# Altium footprint library zWatch.PcbLib: 17 footprints (part 1 of 2)
Each footprint in its own frame and in the unit in brackets; x right, y up, seen from the top. Pads: shape width x height; smd on the part's side, far side on the other; paste and mask are expansions set on the pad; w line width, h text height; cw(c..) or ccw(c..) is an arc to the next point about the centre after c.
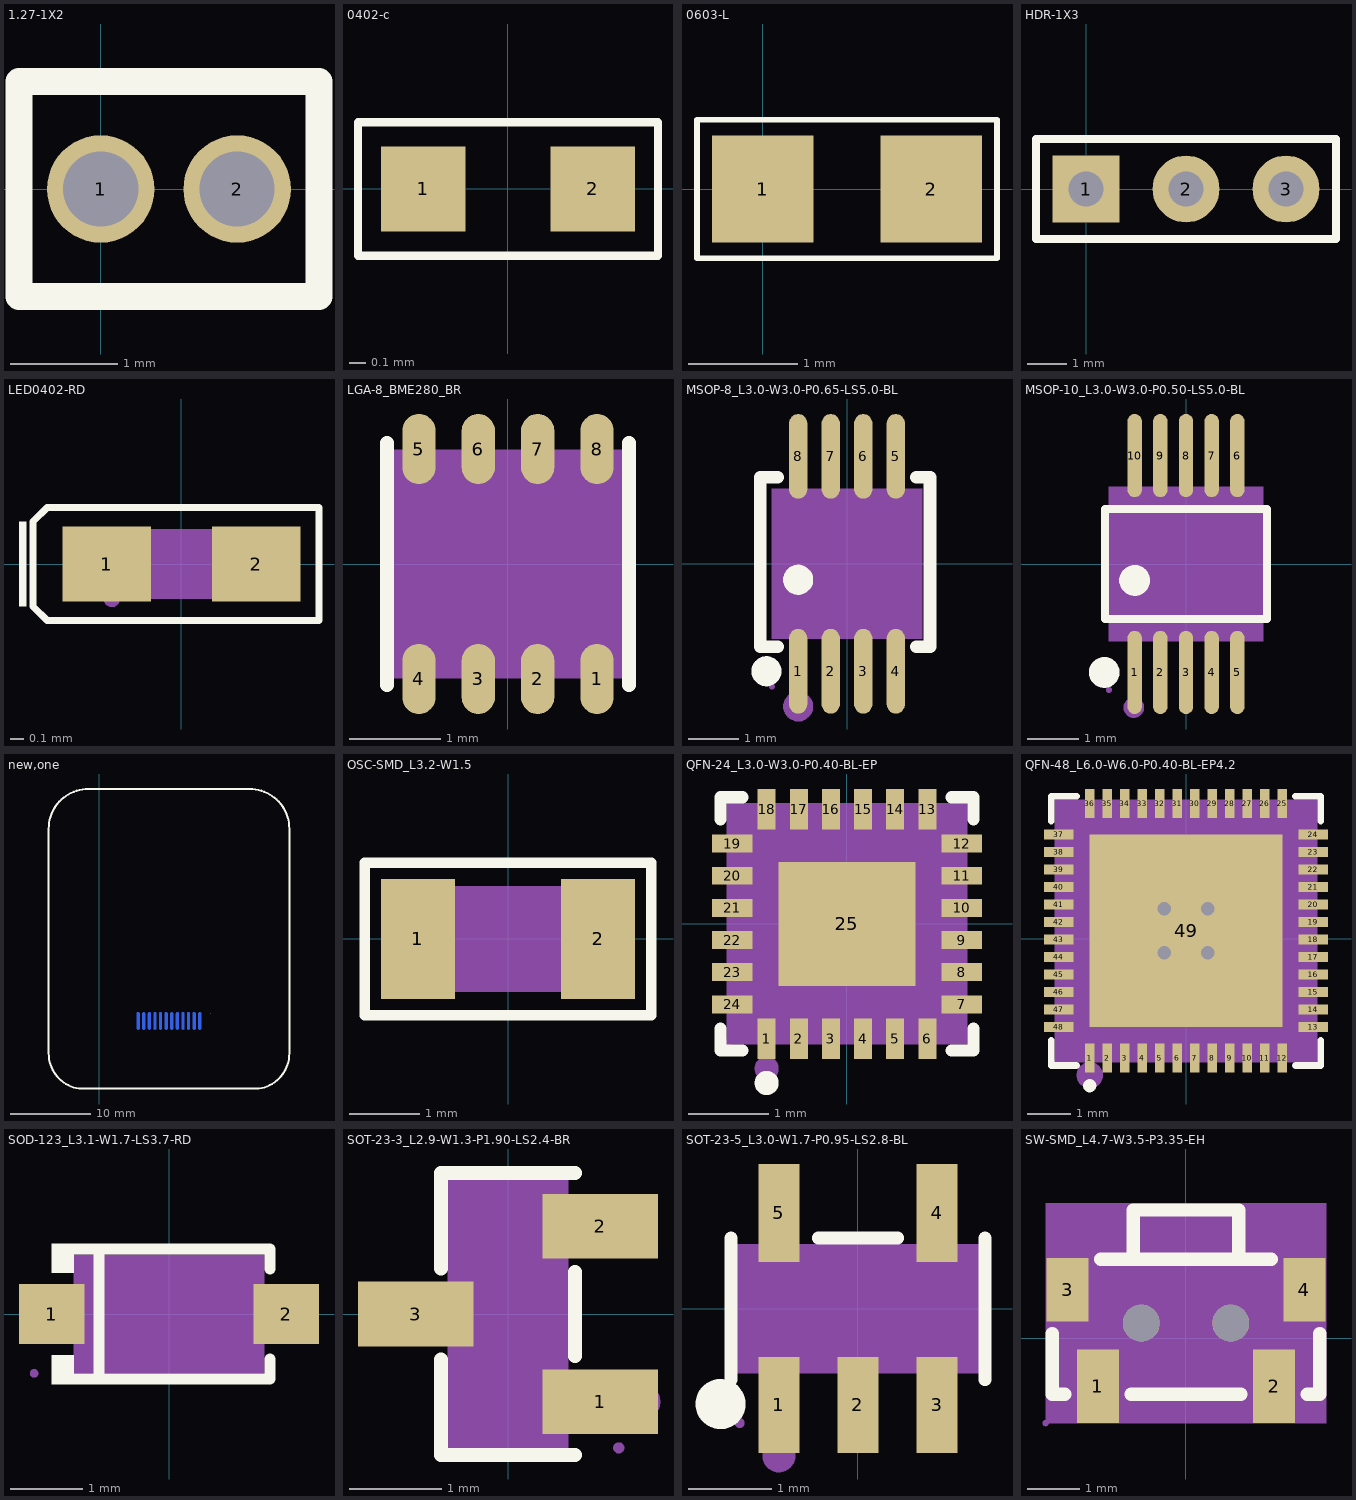
[diagram p0: the footprints below, top view; thin cyan lines are the x and y axes]

## 1.27-1X2 [mm]
height 1.6
pads (2):
  round 1 hole 0.7: 1(0,0) 2(1.27,0)
Top Overlay:
  lines w0.254: -0.76,-1 2.032,-1 2.032,1 -0.76,1 -0.76,-1
Mechanical 5:
  circle w0.25: c1.27,0 r0.125
  circle w0.25: c0,0 r0.125

## 0402-c [mil]
pads (2):
  rect 20x20 smd mask+2: 1(-20,0) 2(20,0)
Top Overlay:
  lines w1.97: -35.43,-15.75 35.43,-15.75 35.43,15.75 -35.43,15.75 -35.43,-15.75
3D body: height 13.78, standoff 1.97, extent -19.92,-11.89 20.19,11.97
3D body: height 14.17, standoff 1.97, extent 17.09,-11.9 22.76,11.97
3D body: height 14.17, standoff 1.97, extent -22.48,-11.9 -16.81,11.97

## 0603-L [mm]
height 1.6
pads (2):
  rect 0.93x0.98 smd: 1(0,0) 2(1.54,0)
Top Overlay:
  lines w0.051: -0.602,-0.635 -0.602,0.635 2.142,0.635 2.142,-0.635 -0.602,-0.635
3D body "L0603.STEP": height 0.46, standoff -0.01, extent -0.032,-0.412 1.572,0.413

## HDR-1X3 [mm] "排针，3脚"
pads (3):
  rect 1.7x1.7 hole 0.9: 1(0,0)
  round 1.7 hole 0.9: 2(2.54,0) 3(5.08,0)
Top Overlay:
  lines w0.2: -1.27,-1.27 -1.27,1.27 6.35,1.27 6.35,-1.27 -1.27,-1.27
3D body "HDR2.54-1P.STEP": height 8.5, standoff -3, extent 3.81,-1.27 6.35,1.27
3D body "HDR2.54-1P.STEP": height 8.5, standoff -3, extent 1.27,-1.27 3.81,1.27
3D body "HDR2.54-1P.STEP": height 8.5, standoff -3, extent -1.27,-1.27 1.27,1.27

## LED0402-RD [mm]
pads (2):
  rect 0.636x0.54 smd: 1(-0.538,0) 2(0.538,0)
Top Overlay:
  region: -1.118,-0.305 -1.118,0.305 -1.168,0.305 -1.168,-0.305
  lines w0.051: -1.067,-0.305 -1.067,-0.279 -1.067,0.305 -0.965,0.406 0.991,0.406 0.991,-0.406 -0.965,-0.406 -1.067,-0.305
Top Paste:
  region: -0.198,-0.23 -0.198,0.23 -0.238,0.27 -0.816,0.27 -0.856,0.23 -0.856,-0.23 -0.816,-0.27 -0.238,-0.27
  region: 0.198,-0.23 0.198,0.23 0.238,0.27 0.816,0.27 0.856,0.23 0.856,-0.23 0.816,-0.27 0.238,-0.27
Mechanical 4:
  region: -0.5,-0.25 -0.5,0.25 0.5,0.25 0.5,-0.25
Mechanical 5:
  region: 0.5,-0.25 0.5,0.25 0.3,0.25 0.3,-0.25
  region: -0.5,-0.25 -0.5,0.25 -0.3,0.25 -0.3,-0.25
Mechanical 6:
  circle w0.06: c-0.5,-0.25 r0.03
Mechanical 15:
  region: 0.35,-0.2 0.35,0.2 0.29,0.2 0.29,-0.2
  region: 0.44,-0.03 0.44,0.03 0.2,0.03 0.2,-0.03
  region: -0.44,-0.03 -0.44,0.03 -0.2,0.03 -0.2,-0.03

## LGA-8_BME280_BR [mm]
height 1.6
pads (8):
  oval 0.364x0.767 smd: 1(0.975,-1.258) 2(0.325,-1.258) 3(-0.325,-1.258) 4(-0.975,-1.258) 5(-0.975,1.259) 6(-0.325,1.259) 7(0.325,1.259) 8(0.975,1.259)
Top Overlay:
  lines w0.152: -1.326,-1.326 -1.326,1.326 ; 1.326,-1.326 1.326,1.326
Mechanical 4:
  region: -1.25,-1.25 -1.25,1.25 1.25,1.25 1.25,-1.25
Mechanical 5:
  region: -1.15,1.25 -1.15,0.9 -0.8,0.9 -0.8,1.25
  region: -0.5,1.25 -0.5,0.9 -0.15,0.9 -0.15,1.25
  region: 0.15,1.25 0.15,0.9 0.5,0.9 0.5,1.25
  region: 0.8,1.25 0.8,0.9 1.15,0.9 1.15,1.25
  region: 0.8,-1.25 0.8,-0.9 1.15,-0.9 1.15,-1.25
  region: 0.15,-1.25 0.15,-0.9 0.5,-0.9 0.5,-1.25
  region: -0.5,-1.25 -0.5,-0.9 -0.15,-0.9 -0.15,-1.25
  region: -1.15,-1.25 -1.15,-0.9 -0.8,-0.9 -0.8,-1.25
Mechanical 6:
  circle w0.06: c-1.25,0 r0.03
Mechanical 15:
  region: 0.926,1.012 0.926,1.026 0.996,1.026 0.996,1.012
  region: 1.038,1.026 1.038,1.04 1.094,1.04 1.094,1.026
  region: 0.912,1.026 0.912,1.04 1.01,1.04 1.01,1.026
  region: 0.912,1.04 0.912,1.054 1.108,1.054 1.108,1.04
  region: 0.968,1.054 0.968,1.068 1.122,1.068 1.122,1.054
  region: 0.898,1.054 0.898,1.068 0.954,1.068 0.954,1.054
  region: 1.08,1.068 1.08,1.082 1.122,1.082 1.122,1.068
  region: 0.982,1.068 0.982,1.082 1.038,1.082 1.038,1.068
  region: 0.898,1.068 0.898,1.082 0.94,1.082 0.94,1.068
  region: 1.094,1.082 1.094,1.096 1.122,1.096 1.122,1.082
  region: 0.996,1.082 0.996,1.096 1.024,1.096 1.024,1.082
  region: 0.898,1.082 0.898,1.096 0.926,1.096 0.926,1.082
  region: 1.094,1.096 1.094,1.11 1.122,1.11 1.122,1.096
  region: 0.996,1.096 0.996,1.11 1.024,1.11 1.024,1.096
  region: 0.898,1.096 0.898,1.11 0.926,1.11 0.926,1.096
  region: 1.066,1.11 1.066,1.124 1.122,1.124 1.122,1.11
  region: 0.982,1.11 0.982,1.124 1.052,1.124 1.052,1.11
  region: 0.898,1.11 0.898,1.124 0.94,1.124 0.94,1.11
  region: 0.898,1.124 0.898,1.138 1.122,1.138 1.122,1.124
  region: 1.024,1.138 1.024,1.152 1.108,1.152 1.108,1.138
  region: 0.912,1.138 0.912,1.152 1.01,1.152 1.01,1.138
  region: 1.038,1.152 1.038,1.166 1.094,1.166 1.094,1.152
  region: 0.912,1.152 0.912,1.166 1.01,1.166 1.01,1.152
  region: 0.94,1.166 0.94,1.18 0.982,1.18 0.982,1.166
  region: 0.94,-1.166 0.94,-1.152 0.968,-1.152 0.968,-1.166
  region: 0.94,-1.152 0.94,-1.138 0.968,-1.138 0.968,-1.152
  region: 0.926,-1.138 0.926,-1.124 0.968,-1.124 0.968,-1.138
  region: 0.912,-1.124 0.912,-1.11 0.954,-1.11 0.954,-1.124
  region: 0.912,-1.11 0.912,-1.096 1.122,-1.096 1.122,-1.11
  region: 0.898,-1.096 0.898,-1.082 1.122,-1.082 1.122,-1.096
  region: 0.898,-1.082 0.898,-1.068 1.122,-1.068 1.122,-1.082
  region: 0.898,-1.068 0.898,-1.054 1.122,-1.054 1.122,-1.068
  region: -1.25,0 -0.95,0.125 -0.95,-0.125

## MSOP-8_L3.0-W3.0-P0.65-LS5.0-BL [mm]
height 1.6
pads (8):
  oval 0.364x1.692 smd: 1(-0.975,-2.146) 2(-0.325,-2.146) 3(0.325,-2.146) 4(0.975,-2.146) 5(0.975,2.146) 6(0.325,2.146) 7(-0.325,2.146) 8(-0.975,2.146)
Top Overlay:
  circle w0.3: c-0.975,-0.319 r0.15
  circle w0.3: c-1.609,-2.146 r0.15
  lines w0.254: -1.73,1.724 -1.73,-1.652 -1.723,-1.658 -1.388,-1.658 ; -1.717,1.71 -1.697,1.73 -1.388,1.73 ; 1.388,-1.658 1.659,-1.658 1.659,1.73 1.388,1.73
Mechanical 4:
  region: -1.5,-1.5 -1.5,1.5 1.5,1.5 1.5,-1.5
Mechanical 5:
  region: -1.13,-2.45 -1.13,-1.85 -0.82,-1.85 -0.82,-2.45
  pour cut-out: -1.13,-1.86 -1.13,-1.49 -0.82,-1.49 -0.82,-1.86
  region: -0.48,-2.45 -0.48,-1.85 -0.17,-1.85 -0.17,-2.45
  pour cut-out: -0.48,-1.86 -0.48,-1.49 -0.17,-1.49 -0.17,-1.86
  region: 0.17,-2.45 0.17,-1.85 0.48,-1.85 0.48,-2.45
  pour cut-out: 0.17,-1.86 0.17,-1.49 0.48,-1.49 0.48,-1.86
  region: 0.82,-2.45 0.82,-1.85 1.13,-1.85 1.13,-2.45
  pour cut-out: 0.82,-1.86 0.82,-1.49 1.13,-1.49 1.13,-1.86
  region: -1.13,2.45 -1.13,1.85 -0.82,1.85 -0.82,2.45
  pour cut-out: -1.13,1.86 -1.13,1.49 -0.82,1.49 -0.82,1.86
  region: -0.48,2.45 -0.48,1.85 -0.17,1.85 -0.17,2.45
  pour cut-out: -0.48,1.86 -0.48,1.49 -0.17,1.49 -0.17,1.86
  region: 0.17,2.45 0.17,1.85 0.48,1.85 0.48,2.45
  pour cut-out: 0.17,1.86 0.17,1.49 0.48,1.49 0.48,1.86
  region: 0.82,2.45 0.82,1.85 1.13,1.85 1.13,2.45
  pour cut-out: 0.82,1.86 0.82,1.49 1.13,1.49 1.13,1.86
Mechanical 6:
  circle w0.06: c-1.5,-2.45 r0.03
Mechanical 15:
  circle w0.3: c-0.975,-2.85 r0.15

## MSOP-10_L3.0-W3.0-P0.50-LS5.0-BL [mm]
height 1.6
pads (10):
  oval 0.28x1.62 smd: 1(-1,-2.11) 2(-0.5,-2.11) 3(0,-2.11) 4(0.5,-2.11) 5(1,-2.11) 6(1,2.11) 7(0.5,2.11) 8(0,2.11) 9(-0.5,2.11) 10(-1,2.11)
Top Overlay:
  circle w0.3: c-1,-0.319 r0.15
  circle w0.3: c-1.592,-2.11 r0.15
  lines w0.152: -1.576,-1.071 -1.576,1.071 1.576,1.071 1.576,-1.071 -1.576,-1.071
Mechanical 4:
  region: -1.5,-1.5 -1.5,1.5 1.5,1.5 1.5,-1.5
Mechanical 5:
  region: -1.112,-2.45 -1.112,-1.9 -0.888,-1.9 -0.888,-2.45
  pour cut-out: -1.112,-1.91 -1.112,-1.49 -0.888,-1.49 -0.888,-1.91
  region: -0.612,-2.45 -0.612,-1.9 -0.388,-1.9 -0.388,-2.45
  pour cut-out: -0.612,-1.91 -0.612,-1.49 -0.388,-1.49 -0.388,-1.91
  region: -0.112,-2.45 -0.112,-1.9 0.112,-1.9 0.112,-2.45
  pour cut-out: -0.112,-1.91 -0.112,-1.49 0.112,-1.49 0.112,-1.91
  region: 0.388,-2.45 0.388,-1.9 0.612,-1.9 0.612,-2.45
  pour cut-out: 0.388,-1.91 0.388,-1.49 0.612,-1.49 0.612,-1.91
  region: 0.888,-2.45 0.888,-1.9 1.112,-1.9 1.112,-2.45
  pour cut-out: 0.888,-1.91 0.888,-1.49 1.112,-1.49 1.112,-1.91
  region: -1.112,2.45 -1.112,1.9 -0.888,1.9 -0.888,2.45
  pour cut-out: -1.112,1.91 -1.112,1.49 -0.888,1.49 -0.888,1.91
  region: -0.612,2.45 -0.612,1.9 -0.388,1.9 -0.388,2.45
  pour cut-out: -0.612,1.91 -0.612,1.49 -0.388,1.49 -0.388,1.91
  region: -0.112,2.45 -0.112,1.9 0.112,1.9 0.112,2.45
  pour cut-out: -0.112,1.91 -0.112,1.49 0.112,1.49 0.112,1.91
  region: 0.388,2.45 0.388,1.9 0.612,1.9 0.612,2.45
  pour cut-out: 0.388,1.91 0.388,1.49 0.612,1.49 0.612,1.91
  region: 0.888,2.45 0.888,1.9 1.112,1.9 1.112,2.45
  pour cut-out: 0.888,1.91 0.888,1.49 1.112,1.49 1.112,1.91
Mechanical 6:
  circle w0.06: c-1.5,-2.45 r0.03
Mechanical 15:
  circle w0.2: c-1.016,-2.794 r0.1

## new,one [mm]
pads (12):
  oval 0.35x2.159 smd far side: 1(12.542,14.737) 2(11.842,14.737) 3(11.142,14.737) 4(10.442,14.737) 5(9.742,14.737) 6(9.042,14.737) 7(8.342,14.737) 8(7.642,14.737) 9(6.942,14.737) 10(6.242,14.737) 11(5.542,14.737) 12(4.842,14.737)
Top Overlay:
  circle w0.006: c13.895,15.722 r0.003
  lines w0.013: -0.483,6.321 19.687,6.321
  lines w0.254: -6.34,10.683 ccw(c-1.89,10.683) -2.555,6.283 19.945,6.283 ccw(c19.28,10.683) 23.73,10.683 23.73,38.767 ccw(c18.78,38.767) 18.78,43.717 -1.39,43.717 ccw(c-1.39,38.767) -6.34,38.767 -6.34,10.683
Bottom Overlay:
  circle w0.254: c13.487,16.408 r0.29
  circle w0.254: c13.513,16.459 r0.114
  circle w0.15: c4.005,12.001 r0.5
  circle w0.15: c14.005,12.001 r0.5
  lines w0.15: 2.99,6.248 2.99,15.24 ; 2.995,15.222 cw(c3.495,15.222) 3.495,15.722 13.895,15.722 cw(c13.895,15.222) 14.395,15.222 ; 3.845,14.322 3.845,15.722 3.845,14.022 ccw(c4.145,14.022) 4.145,13.722 13.245,13.722 ccw(c13.245,14.022) 13.545,14.022 13.545,15.722 ; 13.67,15.722 13.545,15.722 ; 14.392,12.985 ccw(c14.892,12.985) 14.892,12.485 ; 14.404,12.947 14.404,15.264 ; 14.915,12.481 16.477,12.481 cw(c16.477,11.833) 17.125,11.833 ; 17.133,6.245 17.133,11.862 ; 13.545,14.322 13.545,15.722 ; 13.545,14.322 13.545,15.722 ; 13.545,14.322 13.545,15.722

## OSC-SMD_L3.2-W1.5 [mm]
height 1.6
pads (2):
  rect 1.05x1.7 smd: 1(-1.275,0) 2(1.275,0)
Top Overlay:
  lines w0.152: -2.029,-1.079 2.029,-1.079 2.029,1.079 -2.029,1.079 -2.029,-1.079
Mechanical 4:
  region: -1.6,-0.75 -1.6,0.75 1.6,0.75 1.6,-0.75
Mechanical 5:
  region: 0.85,-0.75 0.85,0.75 1.5,0.75 1.5,-0.75
  region: -0.85,-0.75 -0.85,0.75 -1.5,0.75 -1.5,-0.75
Mechanical 6:
  circle w0.06: c-1.6,-0.75 r0.03

## QFN-24_L3.0-W3.0-P0.40-BL-EP [mm]
height 1.6
pads (25):
  rect 0.224x0.505 smd: 1(-1,-1.428) 2(-0.6,-1.428) 3(-0.2,-1.428) 4(0.2,-1.428) 5(0.6,-1.428) 6(1,-1.428) 13(1,1.428) 14(0.6,1.428) 15(0.2,1.428) 16(-0.2,1.428) 17(-0.6,1.428) 18(-1,1.428)
  rect 0.505x0.224 smd: 7(1.428,-1) 8(1.428,-0.6) 9(1.428,-0.2) 10(1.428,0.2) 11(1.428,0.6) 12(1.428,1) 19(-1.427,1) 20(-1.427,0.6) 21(-1.427,0.2) 22(-1.427,-0.2) 23(-1.427,-0.6) 24(-1.427,-1)
  rect 1.7x1.54 smd: 25(0,0)
Top Overlay:
  circle w0.15: c-1,-1.98 r0.075
  lines w0.152: -1.576,-1.302 -1.576,-1.576 -1.303,-1.576 ; -1.576,1.303 -1.576,1.576 -1.303,1.576 ; 1.303,-1.576 1.576,-1.576 1.576,-1.302 ; 1.303,1.576 1.576,1.576 1.576,1.303
Mechanical 4:
  region: -1.5,-1.5 -1.5,1.5 1.5,1.5 1.5,-1.5
Mechanical 5:
  region: -0.85,-0.616 -0.85,0.77 0.85,0.77 0.85,-0.77 -0.696,-0.77
  region: -1.2,-1.1 -1.2,-0.9 -1.5,-0.9 -1.5,-1.1
  region: -1.2,-0.7 -1.2,-0.5 -1.5,-0.5 -1.5,-0.7
  region: -1.2,-0.3 -1.2,-0.1 -1.5,-0.1 -1.5,-0.3
  region: -1.2,0.1 -1.2,0.3 -1.5,0.3 -1.5,0.1
  region: -1.2,0.5 -1.2,0.7 -1.5,0.7 -1.5,0.5
  region: -1.2,0.9 -1.2,1.1 -1.5,1.1 -1.5,0.9
  region: -1.1,1.5 -1.1,1.2 -0.9,1.2 -0.9,1.5
  region: -0.7,1.5 -0.7,1.2 -0.5,1.2 -0.5,1.5
  region: -0.3,1.5 -0.3,1.2 -0.1,1.2 -0.1,1.5
  region: 0.1,1.5 0.1,1.2 0.3,1.2 0.3,1.5
  region: 0.5,1.5 0.5,1.2 0.7,1.2 0.7,1.5
  region: 0.9,1.5 0.9,1.2 1.1,1.2 1.1,1.5
  region: 1.2,0.9 1.2,1.1 1.5,1.1 1.5,0.9
  region: 1.2,0.5 1.2,0.7 1.5,0.7 1.5,0.5
  region: 1.2,0.1 1.2,0.3 1.5,0.3 1.5,0.1
  region: 1.2,-0.3 1.2,-0.1 1.5,-0.1 1.5,-0.3
  region: 1.2,-0.7 1.2,-0.5 1.5,-0.5 1.5,-0.7
  region: 1.2,-1.1 1.2,-0.9 1.5,-0.9 1.5,-1.1
  region: 0.9,-1.5 0.9,-1.2 1.1,-1.2 1.1,-1.5
  region: 0.5,-1.5 0.5,-1.2 0.7,-1.2 0.7,-1.5
  region: 0.1,-1.5 0.1,-1.2 0.3,-1.2 0.3,-1.5
  region: -0.3,-1.5 -0.3,-1.2 -0.1,-1.2 -0.1,-1.5
  region: -0.7,-1.5 -0.7,-1.2 -0.5,-1.2 -0.5,-1.5
  region: -1.1,-1.5 -1.1,-1.2 -0.9,-1.2 -0.9,-1.5
Mechanical 6:
  circle w0.06: c-1.5,-1.5 r0.03
Mechanical 15:
  circle w0.15: c-1,-1.8 r0.075

## QFN-48_L6.0-W6.0-P0.40-BL-EP4.2 [mm]
height 1.6
pads (49):
  rect 0.224x0.665 smd: 1(-2.2,-2.72) 2(-1.8,-2.72) 3(-1.4,-2.72) 4(-1,-2.72) 5(-0.6,-2.72) 6(-0.2,-2.72) 7(0.2,-2.72) 8(0.6,-2.72) 9(1,-2.72) 10(1.4,-2.72) 11(1.8,-2.72) 12(2.2,-2.72) 25(2.2,3.095) 26(1.8,3.095) 27(1.4,3.095) 28(1,3.095) 29(0.6,3.095) 30(0.2,3.095) 31(-0.2,3.095) 32(-0.6,3.095) 33(-1,3.095) 34(-1.4,3.095) 35(-1.8,3.095) 36(-2.2,3.095)
  rect 0.665x0.224 smd: 13(2.907,-2.013) 14(2.907,-1.613) 15(2.907,-1.213) 16(2.907,-0.813) 17(2.907,-0.413) 18(2.907,-0.013) 19(2.907,0.387) 20(2.907,0.787) 21(2.907,1.187) 22(2.907,1.587) 23(2.907,1.987) 24(2.907,2.387) 37(-2.908,2.387) 38(-2.908,1.987) 39(-2.908,1.587) 40(-2.908,1.187) 41(-2.908,0.787) 42(-2.908,0.387) 43(-2.908,-0.013) 44(-2.908,-0.413) 45(-2.908,-0.813) 46(-2.908,-1.213) 47(-2.908,-1.613) 48(-2.908,-2.013)
  rect 4.4x4.4 smd: 49(0,0.187)
via 0.5,0.687 diameter 0.61 hole 0.305
via -0.5,0.687 diameter 0.61 hole 0.305
via -0.5,-0.313 diameter 0.61 hole 0.305
via 0.5,-0.313 diameter 0.61 hole 0.305
Top Overlay:
  circle w0.15: c-2.2,-3.353 r0.075
  lines w0.152: -3.076,-2.315 -3.076,-2.889 -2.503,-2.889 ; -3.076,2.69 -3.076,3.264 -2.503,3.264 ; 2.503,-2.889 3.076,-2.889 3.076,-2.315 ; 2.503,3.264 3.076,3.264 3.076,2.69
Mechanical 4:
  region: -3,-2.813 -3,3.187 3,3.187 3,-2.813
Mechanical 5:
  drawing of 49 lines, arcs and shapes, not listed
Mechanical 6:
  circle w0.06: c-3,-2.813 r0.03
Mechanical 15:
  circle w0.3: c-2.2,-3.113 r0.15

## SOD-123_L3.1-W1.7-LS3.7-RD [mm]
pads (2):
  rect 0.91x0.84 smd: 1(-1.63,0) 2(1.63,0)
Top Overlay:
  region: -1.325,0.977 -1.325,0.572 -1.63,0.572 -1.63,0.977
  region: -1.325,-0.977 -1.325,-0.572 -1.63,-0.572 -1.63,-0.977
  lines w0.152: -1.401,-0.901 1.401,-0.901 1.401,-0.623 ; -1.401,0.901 1.401,0.901 1.401,0.623 ; -0.972,-0.901 -0.972,0.901
Mechanical 4:
  region: -1.325,-0.825 -1.325,0.825 1.325,0.825 1.325,-0.825
Mechanical 5:
  region: -1.875,-0.3 -1.875,0.3 -1.525,0.3 -1.525,-0.3
  pour cut-out: -1.315,-0.3 -1.315,0.3 -1.535,0.3 -1.535,-0.3
  region: 1.875,-0.3 1.875,0.3 1.525,0.3 1.525,-0.3
  pour cut-out: 1.315,-0.3 1.315,0.3 1.535,0.3 1.535,-0.3
Mechanical 6:
  circle w0.06: c-1.875,-0.825 r0.03
Mechanical 15:
  region: -1.127,0.099 -1.127,-0.099 -0.335,-0.099 -0.335,0.099
  region: 1.127,0.099 1.127,-0.099 0.335,-0.099 0.335,0.099
  region: 0.83,0.66 0.83,-0.66 0.632,-0.66 0.632,0.66

## SOT-23-3_L2.9-W1.3-P1.90-LS2.4-BR [mm]
height 1.6
pads (3):
  rect 1.25x0.7 smd: 1(1,-0.95) 2(1,0.95) 3(-1,0)
Top Overlay:
  lines w0.152: -0.726,-0.495 -0.726,-1.526 0.726,-1.526 ; -0.726,0.495 -0.726,1.526 0.726,1.526 ; 0.726,-0.455 0.726,0.455
Mechanical 4:
  region: -0.65,-1.45 -0.65,1.45 0.65,1.45 0.65,-1.45
Mechanical 5:
  region: 0.68,-1.16 0.68,-0.74 1.2,-0.74 1.2,-1.16
  pour cut-out: 0.64,-1.16 0.64,-0.74 0.69,-0.74 0.69,-1.16
  region: 0.68,0.74 0.68,1.16 1.2,1.16 1.2,0.74
  pour cut-out: 0.64,0.74 0.64,1.16 0.69,1.16 0.69,0.74
  region: -1.2,-0.21 -1.2,0.21 -0.68,0.21 -0.68,-0.21
  pour cut-out: -0.69,-0.21 -0.69,0.21 -0.64,0.21 -0.64,-0.21
Mechanical 6:
  circle w0.06: c1.2,-1.45 r0.03
Mechanical 15:
  circle w0.2: c1.45,-0.95 r0.1

## SOT-23-5_L3.0-W1.7-P0.95-LS2.8-BL [mm]
height 1.6
pads (5):
  rect 0.49x1.157 smd: 1(-0.95,-1.154) 2(0,-1.154) 3(0.95,-1.154)
  rect 0.49x1.175 smd: 4(0.95,1.154) 5(-0.95,1.154)
Top Overlay:
  circle w0.3: c-1.651,-1.143 r0.15
  lines w0.152: -1.526,-0.851 -1.526,0.851 ; -0.476,0.851 0.476,0.851 ; 1.526,-0.851 1.526,0.851
Mechanical 4:
  region: -1.45,0.775 1.45,0.775 1.45,-0.775 -1.45,-0.775
Mechanical 5:
  pour cut-out: -1.125,0.74 -1.125,1.01 -0.775,1.01 -0.775,0.74
  region: -1.125,1 -1.125,1.4 -0.775,1.4 -0.775,1
  pour cut-out: 0.775,0.74 0.775,1.01 1.125,1.01 1.125,0.74
  region: 0.775,1 0.775,1.4 1.125,1.4 1.125,1
  pour cut-out: 0.775,-1.01 0.775,-0.74 1.125,-0.74 1.125,-1.01
  region: 0.775,-1.4 0.775,-1 1.125,-1 1.125,-1.4
  pour cut-out: -0.175,-1.01 -0.175,-0.74 0.175,-0.74 0.175,-1.01
  region: -0.175,-1.4 -0.175,-1 0.175,-1 0.175,-1.4
  pour cut-out: -1.125,-1.01 -1.125,-0.74 -0.775,-0.74 -0.775,-1.01
  region: -1.125,-1.4 -1.125,-1 -0.775,-1 -0.775,-1.4
Mechanical 6:
  circle w0.06: c-1.42,-1.37 r0.03
Mechanical 15:
  circle w0.2: c-0.95,-1.763 r0.1

## SW-SMD_L4.7-W3.5-P3.35-EH [mm]
height 1.6
pads (6):
  rect 0.8x1.4 smd: 1(-1.675,-0.917) 2(1.675,-0.917)
  rect 0.8x1.2 smd: 3(-2.25,0.917) 4(2.25,0.917)
  round 0.7 hole 0.7 unplated: ""(-0.85,0.282) ""(0.85,0.282)
Top Overlay:
  lines w0.254: -2.54,0.086 -2.54,-1.068 -2.306,-1.068 ; -1.619,1.494 0.088,1.494 1.619,1.494 ; -1.044,-1.068 0.088,-1.068 1.044,-1.068 ; -1,1.494 -1,2.433 1,2.433 1,1.513 ; 2.306,-1.068 2.54,-1.068 2.54,0.086
Mechanical 4:
  region: -2.667,2.56 2.667,2.56 2.667,-1.617 -2.667,-1.617
Mechanical 5:
  circle w0.25: c0.85,0.282 r0.125
  circle w0.25: c-0.85,0.282 r0.125
  region: 1.85,1.517 2.65,1.517 2.65,0.318 1.85,0.318
  region: -2.65,1.517 -1.85,1.517 -1.85,0.318 -2.65,0.318
  region: 1.275,-0.218 2.075,-0.218 2.075,-1.617 1.275,-1.617
  region: -2.075,-0.218 -1.275,-0.218 -1.275,-1.617 -2.075,-1.617
Mechanical 6:
  circle w0.06: c-2.667,-1.617 r0.03